# Altium footprint library Adams Altium Library.PcbLib: 103 footprints (part 1 of 7)
Each footprint in its own frame and in the unit in brackets; x right, y up, seen from the top. Pads: shape width x height; smd on the part's side, far side on the other; paste and mask are expansions set on the pad; w line width, h text height; cw(c..) or ccw(c..) is an arc to the next point about the centre after c.
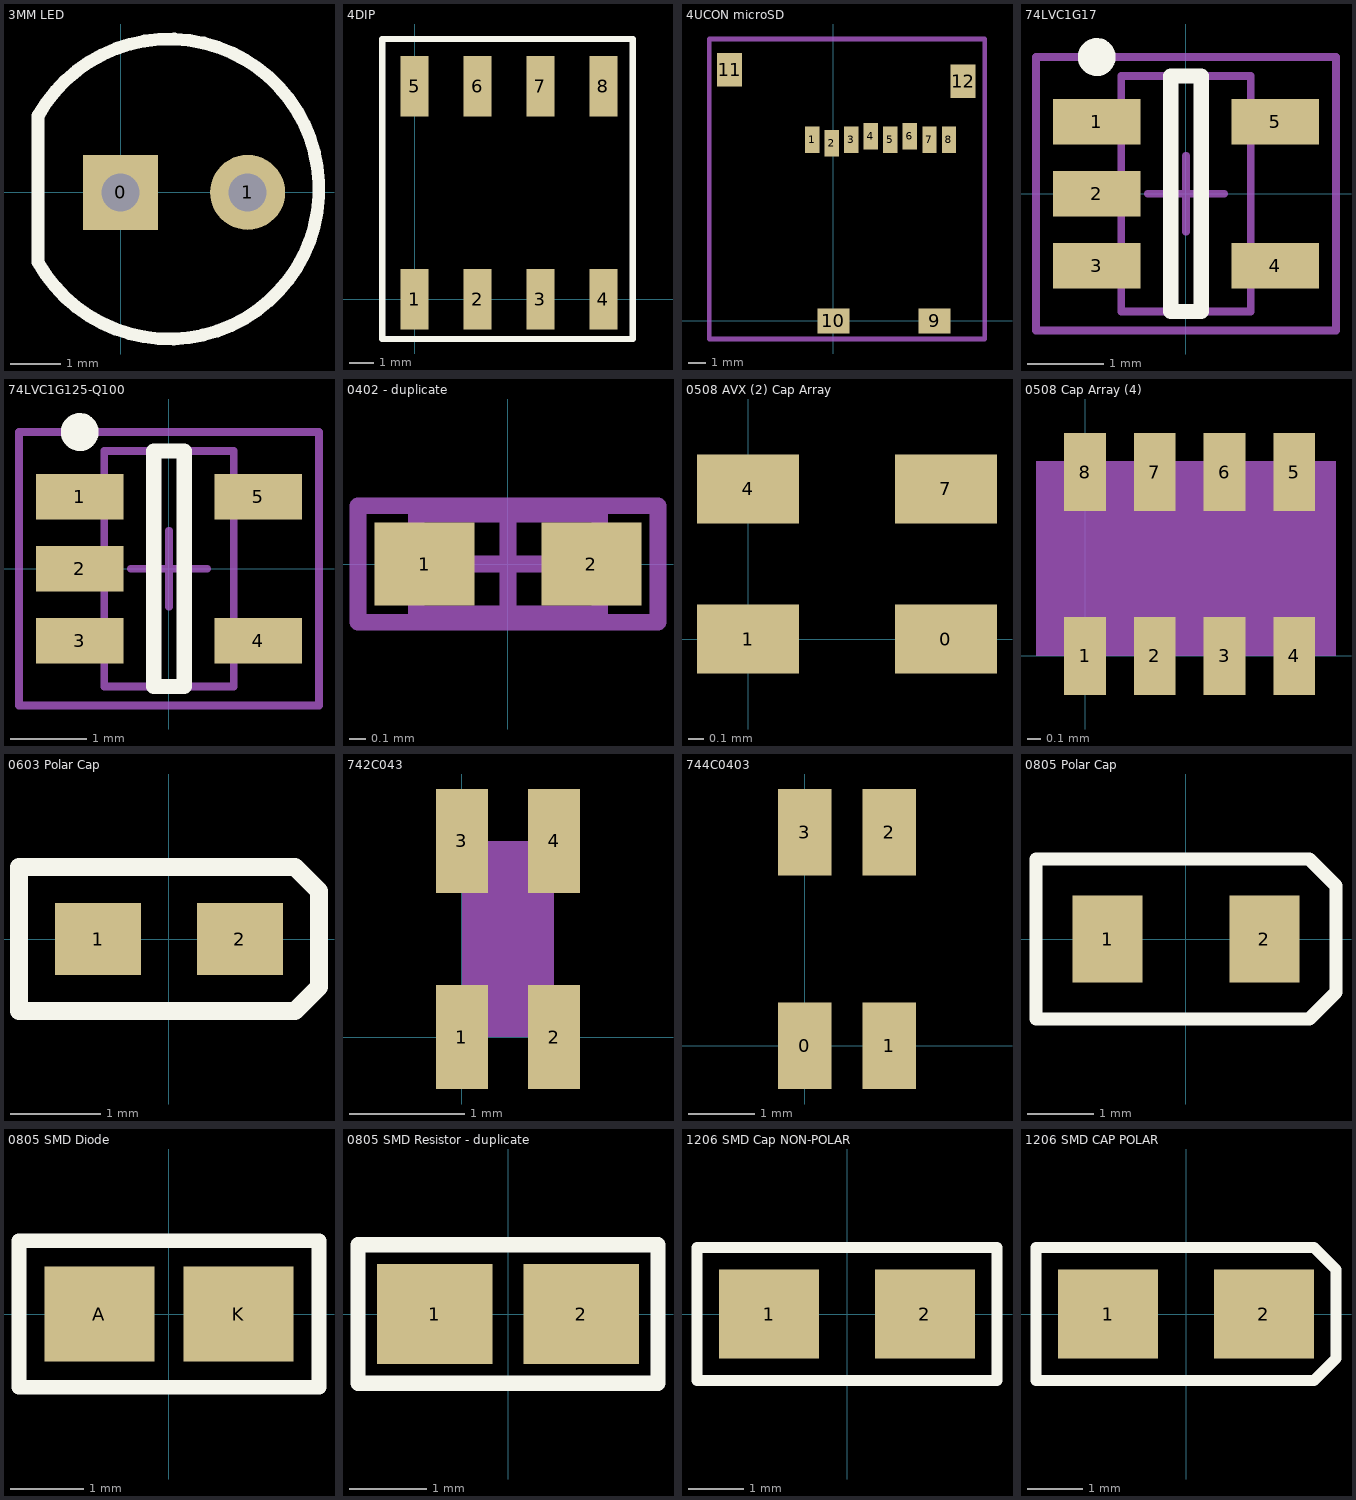
[diagram p0: the footprints below, top view; thin cyan lines are the x and y axes]

## 3MM LED [mm]
pads (2):
  rect 1.5x1.5 hole 0.762: 0(0,0)
  round 1.5 hole 0.762: 1(2.54,0)
Top Overlay:
  lines w0.254: -1.651,1.537 -1.651,-1.397 ccw(c0.967,0.068) -1.645,1.543

## 4DIP [mm]
pads (8):
  rect 1.13x2.44 all layers, no hole: 1(0,0) 2(2.54,0) 3(5.08,0) 4(7.62,0) 5(0,8.6) 6(2.54,8.6) 7(5.08,8.6) 8(7.62,8.6)
Top Overlay:
  lines w0.254: -1.3,-1.6 8.8,-1.6 8.8,10.5 -1.3,10.5 -1.3,-1.6

## 4UCON microSD [mm]
pads (12):
  rect 0.8x1.5 smd: 1(-1.2,10.2) 2(-0.1,10) 3(1,10.2) 4(2.1,10.4) 5(3.2,10.2) 6(4.3,10.4) 7(5.4,10.2) 8(6.5,10.2)
  rect 1.8x1.4 smd: 9(5.7,0) 10(0,0)
  rect 1.4x1.9 smd: 11(-5.85,14.15) 12(7.3,13.5)
Mechanical 13:
  lines w0.254: -6.985,-1.016 8.509,-1.016 8.509,15.875 -6.985,15.875 -6.985,-1.016

## 74LVC1G17 [mm]
height 0.9
pads (5):
  rect 1.15x0.6 smd: 1(-1.175,0.95) 2(-1.175,0) 3(-1.175,-0.95) 4(1.175,-0.95) 5(1.175,0.95)
Top Overlay:
  circle w0.25: c-1.175,1.8 r0.125
  lines w0.2: -0.2,-1.55 -0.2,1.55 0.2,1.55 0.2,-1.55 -0.2,-1.55
Mechanical 13:
  lines w0.1: -0.85,-1.55 0.85,-1.55 0.85,1.55 -0.85,1.55 -0.85,-1.55
Mechanical 15:
  lines w0.1: -0.5,0 0.5,0 ; 0,-0.5 0,0.5 ; -1.975,-1.8 1.975,-1.8 1.975,1.8 -1.975,1.8 -1.975,-1.8
3D body: height 1.1, standoff 0.9, extent -0.85,-1.55 0.85,1.55

## 74LVC1G125-Q100 [mm] "Line Driver Buffer"
height 0.9
pads (5):
  rect 1.15x0.6 smd: 1(-1.175,0.95) 2(-1.175,0) 3(-1.175,-0.95) 4(1.175,-0.95) 5(1.175,0.95)
Top Overlay:
  circle w0.25: c-1.175,1.8 r0.125
  lines w0.2: -0.2,-1.55 -0.2,1.55 0.2,1.55 0.2,-1.55 -0.2,-1.55
Mechanical 13:
  lines w0.1: -0.85,-1.55 0.85,-1.55 0.85,1.55 -0.85,1.55 -0.85,-1.55
Mechanical 15:
  lines w0.1: -0.5,0 0.5,0 ; 0,-0.5 0,0.5 ; -1.975,-1.8 1.975,-1.8 1.975,1.8 -1.975,1.8 -1.975,-1.8
3D body: height 1.1, standoff 0.9, extent -0.85,-1.55 0.85,1.55

## 0402 - duplicate [mm] "Chip Capacitor, Body 1.0x0.5mm, IPC High Density"
height 1.3
pads (2):
  rect 0.6x0.5 smd: 1(-0.5,0) 2(0.5,0)
Mechanical 13:
  lines w0.1: -0.55,-0.3 0.55,-0.3 0.55,0.3 -0.55,0.3 -0.55,-0.3
Mechanical 15:
  lines w0.1: -0.3,0 0.3,0 ; 0,-0.3 0,0.3 ; -0.9,-0.35 0.9,-0.35 0.9,0.35 -0.9,0.35 -0.9,-0.35
3D body: height 1.3, standoff 0, extent -0.55,-0.3 0.55,0.3

## 0508 AVX (2) Cap Array [mm] "Capacator Array 0508"
pads (4):
  rect 0.68x0.46 smd: 0(1.32,0) 1(0,0) 4(0,1) 7(1.32,1)

## 0508 Cap Array (4) [mm] "Capacitor Array"
height 0.94
pads (8):
  rect 0.3x0.56 all layers, no hole: 1(0,0) 2(0.5,0) 3(1,0) 4(1.5,0) 5(1.5,1.32) 6(1,1.32) 7(0.5,1.32) 8(0,1.32)
Mechanical 1:
  rectangle: -0.353,0 1.8,1.4
Mechanical 13:
  rectangle: 0,0 1.5,1.32

## 0603 Polar Cap [mm]
pads (2):
  rect 0.96x0.8 smd: 1(-0.79,0) 2(0.79,0)
Top Overlay:
  lines w0.2: -1.67,-0.8 1.403,-0.8 1.67,-0.533 1.67,0.533 1.403,0.8 -1.67,0.8 -1.67,0 -1.67,-0.8

## 742C043 [mm] "Resistor Array"
pads (4):
  rect 0.45x0.9 all layers, no hole: 1(0,0) 2(0.8,0) 3(0,1.7) 4(0.8,1.7)
Mechanical 1:
  rectangle: 0,0 0.8,1.7

## 744C0403 [mm] "Resistor Array"
pads (4):
  rect 0.8x1.3 all layers, no hole: 0(0,0) 1(1.27,0) 2(1.27,3.2) 3(0,3.2)

## 0805 Polar Cap [mm]
pads (2):
  rect 1.05x1.3 smd: 1(-1.175,0) 2(1.175,0)
Top Overlay:
  lines w0.2: -2.25,-1.2 -2.25,0 -2.25,1.2 1.85,1.2 2.25,0.8 2.25,-0.8 1.85,-1.2 -2.25,-1.2

## 0805 SMD Diode [mm]
pads (2):
  rect 1.5x1.3 smd: A(-0.95,0) K(0.95,0)
Top Overlay:
  lines w0.2: -2.05,-1 2.05,-1 2.05,1 -2.05,1 -2.05,0 -2.05,-1

## 0805 SMD Resistor - duplicate [mm]
pads (2):
  rect 1.5x1.3 smd: 1(-0.95,0) 2(0.95,0)
Top Overlay:
  lines w0.2: -1.95,-0.9 -1.95,0 -1.95,0.9 1.95,0.9 1.95,-0.9 -1.95,-0.9

## 1206 SMD Cap NON-POLAR [mm]
pads (2):
  rect 1.8x1.6 smd: 1(-1.4,0) 2(1.4,0)
Top Overlay:
  lines w0.2: -2.7,-1.2 2.7,-1.2 2.7,1.2 -2.7,1.2 -2.7,0 -2.7,-1.2

## 1206 SMD CAP POLAR [mm]
pads (2):
  rect 1.8x1.6 smd: 1(-1.4,0) 2(1.4,0)
Top Overlay:
  lines w0.2: -2.7,-1.2 2.3,-1.2 2.7,-0.8 2.7,0.8 2.3,1.2 -2.7,1.2 -2.7,0 -2.7,-1.2